# Altium schematic symbol library PT_4PIN_3.5mm.SchLib: 1 symbol
Pins are listed as number, name and electrical type; pins without a type are passive.

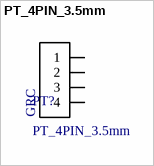
[diagram p0: symbol PT_4PIN_3.5mm]

## PT_4PIN_3.5mm
designator PT?
footprint PT_4PIN_3.5mm
pins: 1, 2, 3, 4
text: GRC